# EAGLE library part CON-GPS (library m-pad-2.1)
GPS Connector for the Lassen IQ. A double row surface mounted connector with 1.27mm pitch (0.05")
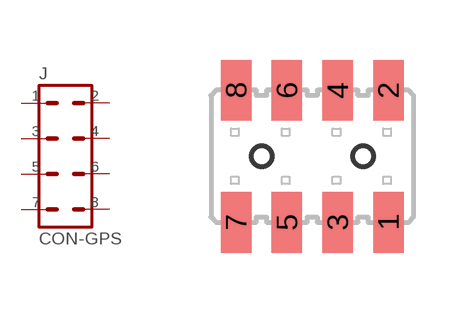
[diagram p145: symbol with the pads of CLP-DV-8; footprint CLP-DV-8]

Designator prefix J

## CON-GPS-A  [CLP-DV-8]
1  1  pas
2  2  pas
3  3  pas
4  4  pas
5  5  pas
6  6  pas
7  7  pas
8  8  pas

## Footprint CLP-DV-8 (pad centres in mm)
Samtech's CLP-104-02 Surface mounted double row connector with 0.05 pitch(1.27mm)
smd 0.762 x 1.524: 1 1.905,-1.651; 2 1.905,1.651; 3 0.635,-1.651; 4 0.635,1.651; 5 -0.635,-1.651; 6 -0.635,1.651; 7 -1.905,-1.651; 8 -1.905,1.651